# EAGLE library part VNC1L (library Zoli2_2015-02-22)
USB Host Controller Viniculum
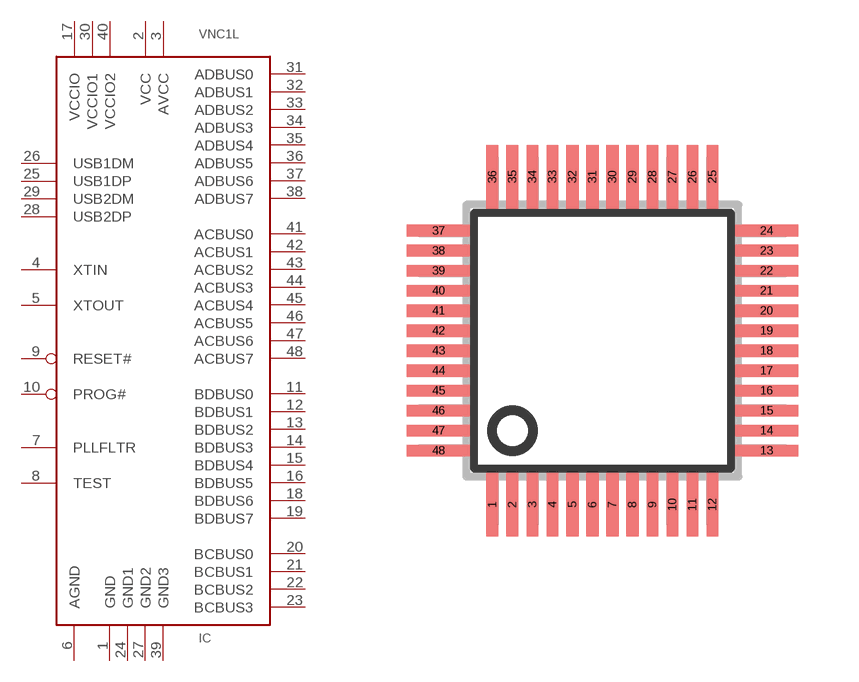
[diagram p31: symbol with the pads of SQFP-S-7X7-48; footprint SQFP-S-7X7-48]

Designator prefix IC

## VNC1L-1A  [SQFP-S-7X7-48]
1  GND  pwr
2  VCC  pwr
3  AVCC  pwr
4  XTIN  in
5  XTOUT  out
6  AGND  pwr
7  PLLFLTR  in
8  TEST  in
9  RESET#  in
10  PROG#  in
11  BDBUS0
12  BDBUS1
13  BDBUS2
14  BDBUS3
15  BDBUS4
16  BDBUS5
17  VCCIO  pwr
18  BDBUS6
19  BDBUS7
20  BCBUS0
21  BCBUS1
22  BCBUS2
23  BCBUS3
24  GND1  pwr
25  USB1DP
26  USB1DM
27  GND2  pwr
28  USB2DP
29  USB2DM
30  VCCIO1  pwr
31  ADBUS0
32  ADBUS1
33  ADBUS2
34  ADBUS3
35  ADBUS4
36  ADBUS5
37  ADBUS6
38  ADBUS7
39  GND3  pwr
40  VCCIO2  pwr
41  ACBUS0
42  ACBUS1
43  ACBUS2
44  ACBUS3
45  ACBUS4
46  ACBUS5
47  ACBUS6
48  ACBUS7

## Footprint SQFP-S-7X7-48 (pad centres in mm)
QFP48 shrink quad flat pack, square
smd 0.3 x 1.6: 1 -2.75,-4.1; 2 -2.25,-4.1; 3 -1.75,-4.1; 4 -1.25,-4.1; 5 -0.75,-4.1; 6 -0.25,-4.1; 7 0.25,-4.1; 8 0.75,-4.1; 9 1.25,-4.1; 10 1.75,-4.1; 11 2.25,-4.1; 12 2.75,-4.1; 25 2.75,4.1; 26 2.25,4.1; 27 1.75,4.1; 28 1.25,4.1; 29 0.75,4.1; 30 0.25,4.1; 31 -0.25,4.1; 32 -0.75,4.1; 33 -1.25,4.1; 34 -1.75,4.1; 35 -2.25,4.1; 36 -2.75,4.1
smd 1.6 x 0.3: 13 4.1,-2.75; 14 4.1,-2.25; 15 4.1,-1.75; 16 4.1,-1.25; 17 4.1,-0.75; 18 4.1,-0.25; 19 4.1,0.25; 20 4.1,0.75; 21 4.1,1.25; 22 4.1,1.75; 23 4.1,2.25; 24 4.1,2.75; 37 -4.1,2.75; 38 -4.1,2.25; 39 -4.1,1.75; 40 -4.1,1.25; 41 -4.1,0.75; 42 -4.1,0.25; 43 -4.1,-0.25; 44 -4.1,-0.75; 45 -4.1,-1.25; 46 -4.1,-1.75; 47 -4.1,-2.25; 48 -4.1,-2.75